# EAGLE library part STM32F072C (library stm32)
STM32F072C ARM-based 32-bit MCU, up to 128 KB Flash, crystalless USB FS 2.0, CAN, 12 timers, ADC, DAC & comm. interfaces, 2.0 - 3.6 V WARNING: part not tested
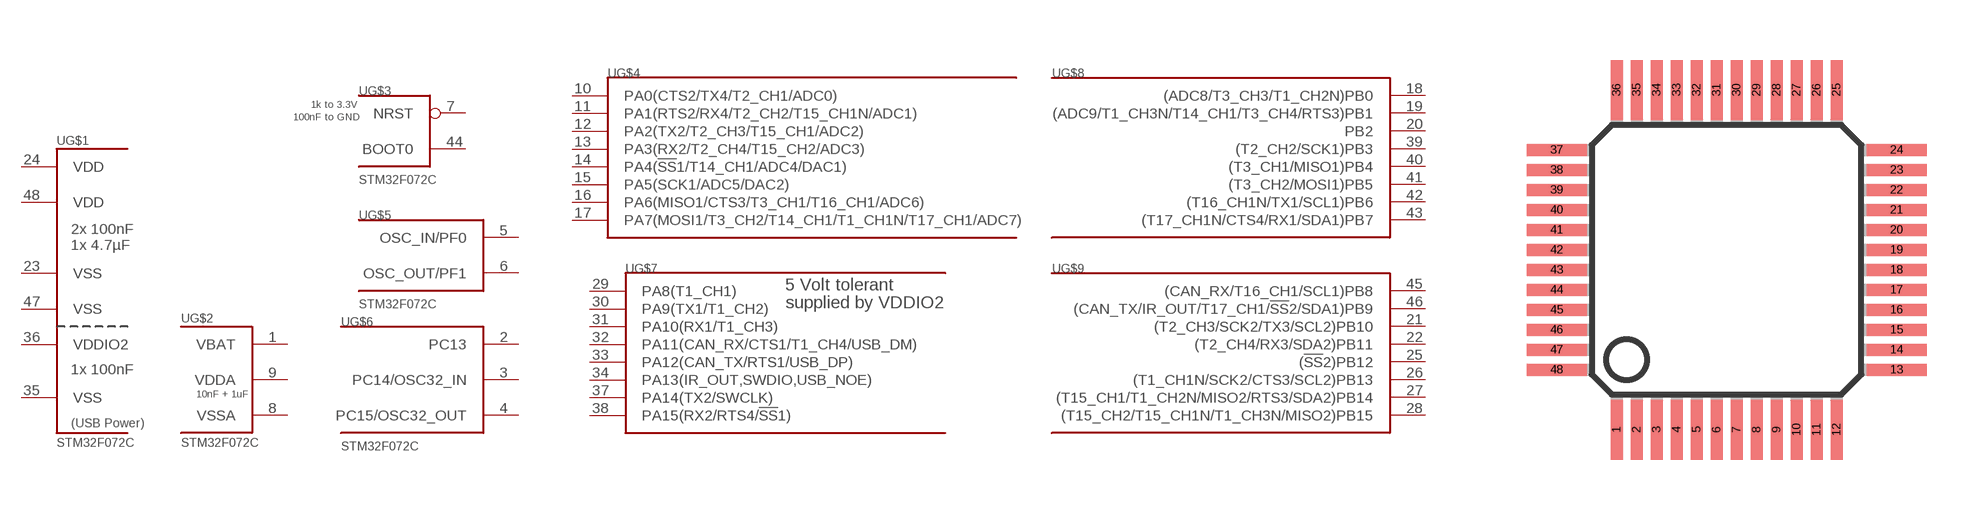
[diagram p8: symbol with the pads of TQFP48; footprint TQFP48]

Designator prefix -; gates G$1=STM32F072C_POWER G$2=STM32F072C_POWER_ANALOG G$3=BOOT_RST G$5=STM32F072C_OSC G$6=STM32F072C_OSC32_PORT_C G$4=STM32F072C_PORT_A_L G$7=STM32F072C_PORT_A_H G$8=STM32F072C_PORT_B_L G$9=STM32F072C_PORT_B_H

## STM32F072CT  [TQFP48]
1  G$2:VBAT  pwr
2  G$6:PC13
3  G$6:PC14/OSC32_IN
4  G$6:PC15/OSC32_OUT
5  G$5:OSC_IN/PF0  in
6  G$5:OSC_OUT/PF1  out
7  G$3:NRST  in
8  G$2:VSSA  pwr
9  G$2:VDDA  pwr
10  G$4:PA0(CTS2/TX4/T2_CH1/ADC0)
11  G$4:PA1(RTS2/RX4/T2_CH2/T15_CH1N/ADC1)
12  G$4:PA2(TX2/T2_CH3/T15_CH1/ADC2)
13  G$4:PA3(RX2/T2_CH4/T15_CH2/ADC3)
14  G$4:PA4(!SS!1/T14_CH1/ADC4/DAC1)
15  G$4:PA5(SCK1/ADC5/DAC2)
16  G$4:PA6(MISO1/CTS3/T3_CH1/T16_CH1/ADC6)
17  G$4:PA7(MOSI1/T3_CH2/T14_CH1/T1_CH1N/T17_CH1/ADC7)
18  G$8:(ADC8/T3_CH3/T1_CH2N)PB0
19  G$8:(ADC9/T1_CH3N/T14_CH1/T3_CH4/RTS3)PB1
20  G$8:PB2
21  G$9:(T2_CH3/SCK2/TX3/SCL2)PB10
22  G$9:(T2_CH4/RX3/SDA2)PB11
23  G$1:VSS  pwr
24  G$1:VDD  pwr
25  G$9:(!SS!2)PB12
26  G$9:(T1_CH1N/SCK2/CTS3/SCL2)PB13
27  G$9:(T15_CH1/T1_CH2N/MISO2/RTS3/SDA2)PB14
28  G$9:(T15_CH2/T15_CH1N/T1_CH3N/MISO2)PB15
29  G$7:PA8(T1_CH1)
30  G$7:PA9(TX1/T1_CH2)
31  G$7:PA10(RX1/T1_CH3)
32  G$7:PA11(CAN_RX/CTS1/T1_CH4/USB_DM)
33  G$7:PA12(CAN_TX/RTS1/USB_DP)
34  G$7:PA13(IR_OUT,SWDIO,USB_NOE)
35  G$1:VSS  pwr
36  G$1:VDDIO2  pwr
37  G$7:PA14(TX2/SWCLK)
38  G$7:PA15(RX2/RTS4/!SS!1)
39  G$8:(T2_CH2/SCK1)PB3
40  G$8:(T3_CH1/MISO1)PB4
41  G$8:(T3_CH2/MOSI1)PB5
42  G$8:(T16_CH1N/TX1/SCL1)PB6
43  G$8:(T17_CH1N/CTS4/RX1/SDA1)PB7
44  G$3:BOOT0  in
45  G$9:(CAN_RX/T16_CH1/SCL1)PB8
46  G$9:(CAN_TX/IR_OUT/T17_CH1/!SS!2/SDA1)PB9
47  G$1:VSS  pwr
48  G$1:VDD  pwr

## Footprint TQFP48 (pad centres in mm)
Thin Quad Flat Pack
smd 0.3 x 1.5: 1 -2.75,-4.25; 2 -2.25,-4.25; 3 -1.75,-4.25; 4 -1.25,-4.25; 5 -0.75,-4.25; 6 -0.25,-4.25; 7 0.25,-4.25; 8 0.75,-4.25; 9 1.25,-4.25; 10 1.75,-4.25; 11 2.25,-4.25; 12 2.75,-4.25; 25 2.75,4.25; 26 2.25,4.25; 27 1.75,4.25; 28 1.25,4.25; 29 0.75,4.25; 30 0.25,4.25; 31 -0.25,4.25; 32 -0.75,4.25; 33 -1.25,4.25; 34 -1.75,4.25; 35 -2.25,4.25; 36 -2.75,4.25
smd 1.5 x 0.3: 13 4.25,-2.75; 14 4.25,-2.25; 15 4.25,-1.75; 16 4.25,-1.25; 17 4.25,-0.75; 18 4.25,-0.25; 19 4.25,0.25; 20 4.25,0.75; 21 4.25,1.25; 22 4.25,1.75; 23 4.25,2.25; 24 4.25,2.75; 37 -4.25,2.75; 38 -4.25,2.25; 39 -4.25,1.75; 40 -4.25,1.25; 41 -4.25,0.75; 42 -4.25,0.25; 43 -4.25,-0.25; 44 -4.25,-0.75; 45 -4.25,-1.25; 46 -4.25,-1.75; 47 -4.25,-2.25; 48 -4.25,-2.75